# Altium schematic symbol library stm32f4 VG07 hoang loi.SchLib: 1 symbol
Pins are listed as number, name and electrical type; pins without a type are passive.

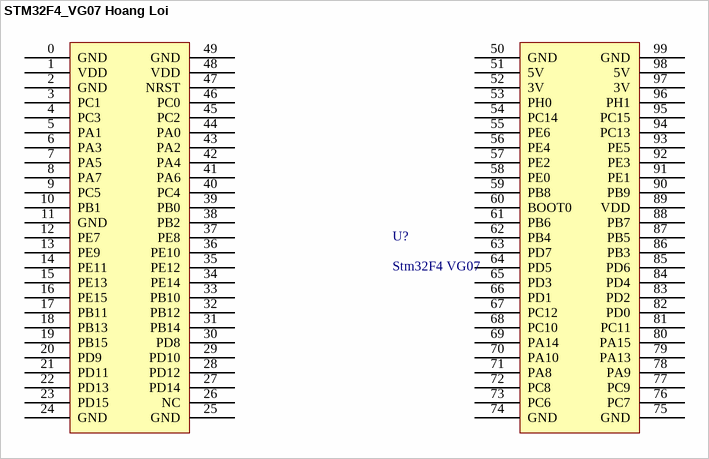
[diagram p0: symbol STM32F4_VG07 Hoang Loi]

## STM32F4_VG07 Hoang Loi
designator U?, comment Stm32F4 VG07
footprint stm32f4 hoan chinh (stm32f4 created by Hoang loi)
pins: 0 GND, 1 VDD, 2 GND, 3 PC1, 4 PC3, 5 PA1, 6 PA3, 7 PA5, 8 PA7, 9 PC5, 10 PB1, 11 GND, 12 PE7, 13 PE9, 14 PE11, 15 PE13, 16 PE15, 17 PB11, 18 PB13, 19 PB15, 20 PD9, 21 PD11, 22 PD13, 23 PD15, 24 GND, 25 GND, 26 NC, 27 PD14, 28 PD12, 29 PD10, 30 PD8, 31 PB14, 32 PB12, 33 PB10, 34 PE14, 35 PE12, 36 PE10, 37 PE8, 38 PB2, 39 PB0, 40 PC4, 41 PA6, 42 PA4, 43 PA2, 44 PA0, 45 PC2, 46 PC0, 47 NRST, 48 VDD, 49 GND, 50 GND, 51 5V, 52 3V, 53 PH0, 54 PC14, 55 PE6, 56 PE4, 57 PE2, 58 PE0, 59 PB8, 60 BOOT0, 61 PB6, 62 PB4, 63 PD7, 64 PD5, 65 PD3, 66 PD1, 67 PC12, 68 PC10, 69 PA14, 70 PA10, 71 PA8, 72 PC8, 73 PC6, 74 GND, 75 GND, 76 PC7, 77 PC9, 78 PA9, 79 PA13, 80 PA15, 81 PC11, 82 PD0, 83 PD2, 84 PD4, 85 PD6, 86 PB3, 87 PB5, 88 PB7, 89 VDD, 90 PB9, 91 PE1, 92 PE3, 93 PE5, 94 PC13, 95 PC15, 96 PH1, 97 3V, 98 5V, 99 GND